# Altium footprint library LYDZ.PcbLib: 231 footprints (part 7 of 15)
Each footprint in its own frame and in the unit in brackets; x right, y up, seen from the top. Pads: shape width x height; smd on the part's side, far side on the other; paste and mask are expansions set on the pad; w line width, h text height; cw(c..) or ccw(c..) is an arc to the next point about the centre after c.
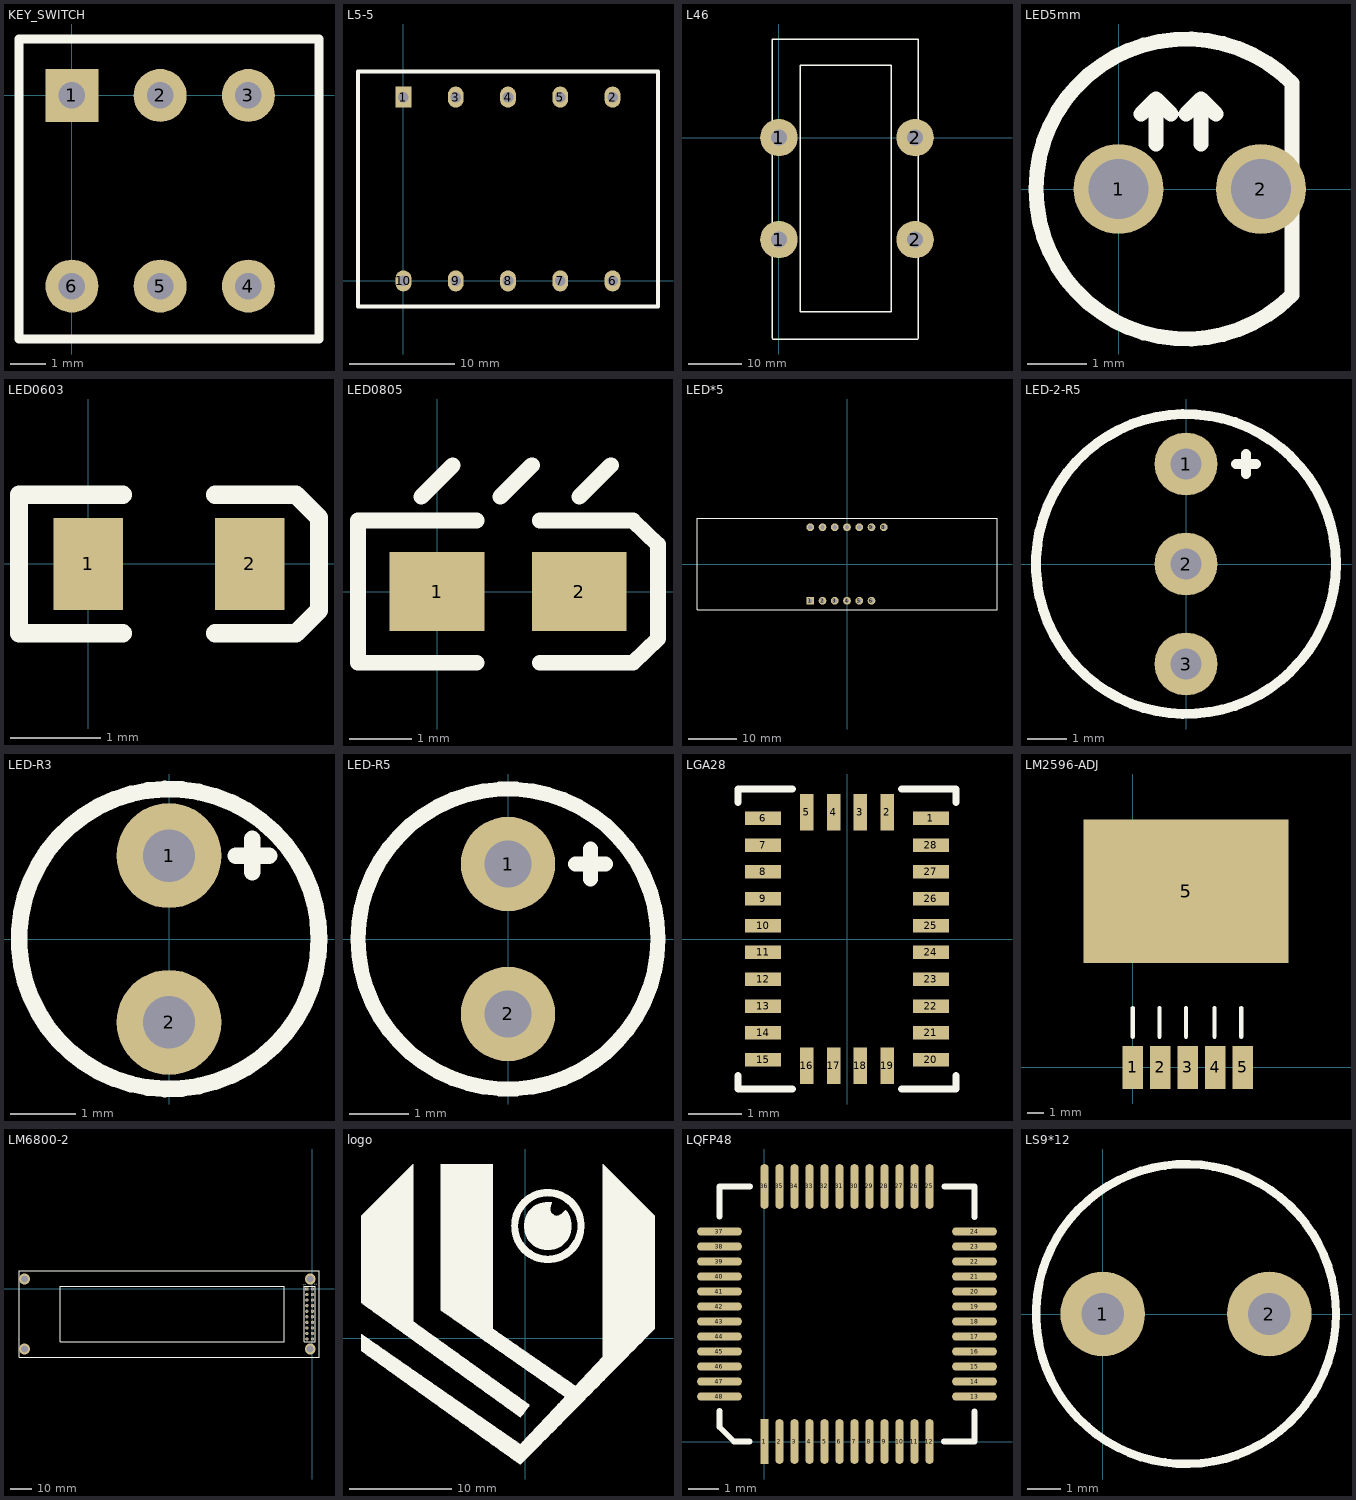
[diagram p6: the footprints below, top view; thin cyan lines are the x and y axes]

## KEY_SWITCH [mm]
pads (6):
  rect 1.5x1.5 hole 0.75: 1(0,0)
  round 1.5 hole 0.75: 2(2.5,0) 3(5,0) 4(5,-5.4) 5(2.5,-5.4) 6(0,-5.4)
Top Overlay:
  lines w0.254: -1.5,-6.9 -1.5,1.6 7,1.6 7,-6.9 -1.5,-6.9

## L5-5 [mm]
pads (10):
  rect 1.5x2 hole 1: 1(0,17.4)
  oval 1.5x2 hole 1: 2(19.8,17.4) 3(4.95,17.4) 4(9.9,17.4) 5(14.85,17.4) 6(19.8,0) 7(14.85,0) 8(9.9,0) 9(4.95,0) 10(0,0)
Top Overlay:
  lines w0.381: -4.3,19.787 -4.3,-2.413 24.1,-2.413 24.1,19.787 ; -4.3,19.812 24.1,19.812

## L46 [mm]
pads (4):
  round 7 hole 3: 1(0,-19.05) 1(0,0) 2(25.4,-19.05) 2(25.4,0)
Top Overlay:
  lines w0.254: -1.27,-5.969 -1.27,12.065 -1.27,18.415 20.955,18.415 26.035,18.415 26.035,-13.97 ; -1.27,-5.715 -1.27,-31.115 -1.27,-37.465 -1.13,-37.605 25.895,-37.605 26.035,-37.465 26.035,-13.335 ; 4,-32.525 21,-32.525 21,13.475 4,13.475 4,-32.525

## LED5mm [mil]
pads (2):
  round 60 hole 40: 1(0,0) 2(95,0)
Top Overlay:
  lines w10: 15,50 25,60 ; 25,30 25,60 ; 35,50 25,60 ; 45,50 55,60 ; 55,30 55,60 ; 65,50 55,60 ; 115.71,-70.71 cw(c45,0) 115.71,70.71 115.71,-70.71

## LED0603 [mil]
pads (2):
  rect 30x40 smd: 1(0,0) 2(70,0)
Top Overlay:
  lines w8: 15,-30 -30,-30 -30,30 15,30 ; 55,-30 90,-30 100,-20 100,20 90,30 55,30

## LED0805 [mil]
pads (2):
  rect 60x50 smd: 1(0,0) 2(90,0)
Top Overlay:
  lines w10: -10,60 10,80 ; 25,-45 -50,-45 -50,45 25,45 ; 40,60 60,80 ; 65,-45 124,-45 139.81,-29.8 139.81,29.8 124,45 65,45 ; 90,60 110,80

## LED*5 [mil]
pads (13):
  rect 62x62 hole 35: 1(-300,-300)
  round 62 hole 35: 2(-200,-300) 3(-100,-300) 4(0,-300) 5(100,-300) 6(200,-300) 8(300,300) 9(200,300) 10(100,300) 11(0,300) 12(-100,300) 13(-200,300) 14(-300,300)
Top Overlay:
  lines w8: -1225,-375 1225,-375 1225,375 -1225,375 -1225,-375

## LED-2-R5 [mm] "Typical RED GaAs LED; 2 Leads"
pads (3):
  round 1.6 hole 0.8: 1(0,2.54) 2(0,0) 3(0,-2.54)
Top Overlay:
  circle w0.254: c0,0 r3.81
  lines w0.254: 1.27,2.54 1.778,2.54 ; 1.524,2.286 1.524,2.794

## LED-R3 [mm] "Typical RED GaAs LED; 2 Leads"
pads (2):
  round 1.6 hole 0.8: 1(0,1.27) 2(0,-1.27)
Top Overlay:
  circle w0.254: c0,0 r2.286
  lines w0.254: 1.016,1.27 1.524,1.27 ; 1.27,1.016 1.27,1.524

## LED-R5 [mm] "Typical RED GaAs LED; 2 Leads"
pads (2):
  round 1.6 hole 0.8: 1(0,1.27) 2(0,-1.27)
Top Overlay:
  circle w0.254: c0,0 r2.54
  lines w0.254: 1.143,1.27 1.651,1.27 ; 1.397,1.016 1.397,1.524

## LGA28 [mm]
pads (28):
  rect 0.675x0.25 smd: 1(1.562,2.25) 6(-1.562,2.25) 7(-1.562,1.75) 8(-1.562,1.25) 9(-1.562,0.75) 10(-1.562,0.25) 11(-1.562,-0.25) 12(-1.562,-0.75) 13(-1.562,-1.25) 14(-1.562,-1.75) 15(-1.562,-2.25) 20(1.562,-2.25) 21(1.562,-1.75) 22(1.562,-1.25) 23(1.562,-0.75) 24(1.562,-0.25) 25(1.562,0.25) 26(1.562,0.75) 27(1.562,1.25) 28(1.562,1.75)
  rect 0.25x0.675 smd: 2(0.75,2.362) 3(0.25,2.362) 4(-0.25,2.362) 5(-0.75,2.362) 16(-0.75,-2.362) 17(-0.25,-2.362) 18(0.25,-2.362) 19(0.75,-2.362)
Top Overlay:
  lines w0.127: -2.032,-2.54 -2.032,-2.794 -1.016,-2.794 ; -2.032,2.54 -2.032,2.794 -1.016,2.794 ; 1.016,-2.794 2.032,-2.794 2.032,-2.54 ; 1.016,2.794 2.032,2.794 2.032,2.54

## LM2596-ADJ [mil]
pads (6):
  rect 50x105 smd: 1(0,0) 2(67,0) 3(134,0) 4(201,0) 5(268,0)
  rect 500x350 smd: 5(130,430)
Top Overlay:
  lines w10: -33,485 -80,485 -80,560 132,560 342,560 344,558 344,485 296,485 296,285 132,285 -32,285 -32,485 ; 0,75 0,145 ; 65,75 65,145 ; 130,75 130,145 ; 200,75 200,145 ; 265,75 265,145

## LM6800-2 [mm]
pads (20):
  rect 1.5x1.5 hole 0.9: 1(-2.54,0)
  round 1.5 hole 0.9: 2(0,0) 3(-2.54,-2.54) 4(0,-2.54) 5(-2.54,-5.08) 6(0,-5.08) 7(-2.54,-7.62) 8(0,-7.62) 9(-2.54,-10.16) 10(0,-10.16) 11(-2.54,-12.7) 12(0,-12.7) 13(-2.54,-15.24) 14(0,-15.24) 15(-2.54,-17.78) 16(0,-17.78) 17(-2.54,-20.32) 18(0,-20.32) 19(-2.54,-22.86) 20(0,-22.86)
via -131.5,4.57 diameter 5 hole 3.2
via -131.5,-27.43 diameter 5 hole 3.2
via -1,-27.43 diameter 5 hole 3.2
via -1,4.57 diameter 5 hole 3.2
Top Overlay:
  lines w0.203: -134.08,-31.23 3,-31.23 3,8.37 -134,8.37 -134,-31.23 ; -115.185,-24.215 -115.185,1.355 -12.815,1.355 -12.815,-24.215 -115.185,-24.215 ; -3.81,-24.13 1.27,-24.13 1.27,1.27 -3.81,1.27 -3.81,-24.13
  text "2" at 1.016,2.413 h0.76
  text "1" at -3.937,2.159 h0.76

## logo [mil]
Top Overlay:
  drawing of 4139 lines, arcs and shapes, not listed

## LQFP48 [mm]
pads (48):
  rect 0.27x1.5 smd: 1(0,0)
  oval 0.27x1.5 smd: 2(0.5,0) 3(1,0) 4(1.5,0) 5(2,0) 6(2.5,0) 7(3,0) 8(3.5,0) 9(4,0) 10(4.5,0) 11(5,0) 12(5.5,0) 25(5.5,8.5) 26(5,8.5) 27(4.5,8.5) 28(4,8.5) 29(3.5,8.5) 30(3,8.5) 31(2.5,8.5) 32(2,8.5) 33(1.5,8.5) 34(1,8.5) 35(0.5,8.5) 36(0,8.5)
  oval 1.5x0.27 smd: 13(7,1.5) 14(7,2) 15(7,2.5) 16(7,3) 17(7,3.5) 18(7,4) 19(7,4.5) 20(7,5) 21(7,5.5) 22(7,6) 23(7,6.5) 24(7,7) 37(-1.5,7) 38(-1.5,6.5) 39(-1.5,6) 40(-1.5,5.5) 41(-1.5,5) 42(-1.5,4.5) 43(-1.5,4) 44(-1.5,3.5) 45(-1.5,3) 46(-1.5,2.5) 47(-1.5,2) 48(-1.5,1.5)
Top Overlay:
  lines w0.2: -1.5,1.016 -1.5,0.484 -1.016,0 -0.889,0 -0.508,0 ; -1.5,7.508 -1.5,7.889 -1.5,8.5 -0.484,8.5 ; 5.984,0 7,0 7,0.611 7,0.992 ; 6.008,8.5 6.389,8.5 7,8.5 7,7.484

## LS9*12 [mm]
pads (2):
  round 2.54 hole 1.27: 1(0,0) 2(5,0)
Top Overlay:
  circle w0.254: c2.5,0 r4.5